# Altium footprint library LARS_409_RADIO.PCBLIB: 6 footprints
Each footprint in its own frame and in the unit in brackets; x right, y up, seen from the top. Pads: shape width x height; smd on the part's side, far side on the other; paste and mask are expansions set on the pad; w line width, h text height; cw(c..) or ccw(c..) is an arc to the next point about the centre after c.
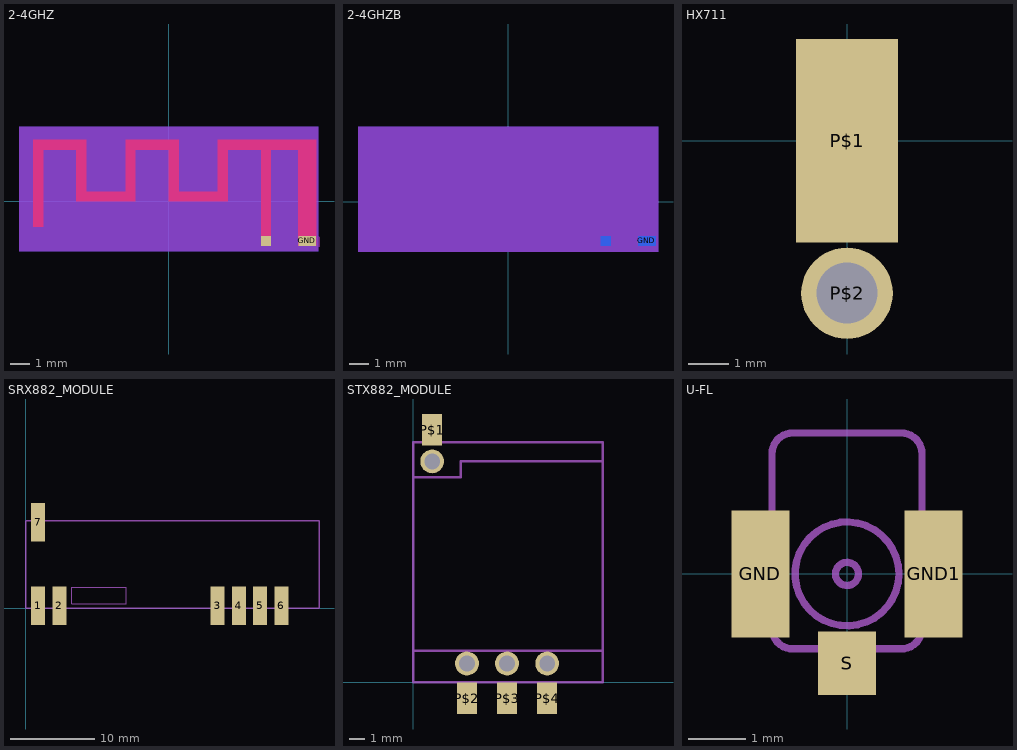
[diagram p0: the footprints below, top view; thin cyan lines are the x and y axes]

## 2-4GHZ [mil]
pads (2):
  rect 19.69x19.69 smd paste+0 mask+0: ANT(195.16,-78.98)
  rect 35.43x19.69 smd paste+0 mask+0: GND(277.83,-78.98)
Top:
  region: 205,-88.82 205,104.09 260.12,104.09 260.12,-88.82 295.55,-88.82 295.55,123.78 98.7,123.78 98.7,19.84 19.96,19.84 19.96,123.78 -86.34,123.78 -86.34,19.84 -165.08,19.84 -165.08,123.78 -271.38,123.78 -271.38,-51.02 -251.69,-51.02 -251.69,104.09 -184.76,104.09 -184.76,0.16 -66.65,0.16 -66.65,104.09 0.28,104.09 0.28,0.16 118.39,0.16 118.39,104.09 185.32,104.09 185.32,-88.82
Top keep-out:
  region: -300,150 -300,-100 300,-100 300,150
  lines w5: 254.21,-88.82 254.21,-73.07 ; 301.46,-88.82 301.46,-73.07
Bottom keep-out:
  region: -300,150 -300,-100 300,-100 300,150

## 2-4GHZB [mil]
pads (2):
  rect 19.69x19.69 smd far side paste+0 mask+0: ANT(195.16,-78.98)
  rect 35.43x19.69 smd far side paste+0 mask+0: GND(277.83,-78.98)
Top keep-out:
  region: -300,150 -300,-100 300,-100 300,150
Bottom:
  region: 205,-88.82 205,104.09 260.12,104.09 260.12,-88.82 295.55,-88.82 295.55,123.78 98.7,123.78 98.7,19.84 19.96,19.84 19.96,123.78 -86.34,123.78 -86.34,19.84 -165.08,19.84 -165.08,123.78 -271.38,123.78 -271.38,-51.02 -251.69,-51.02 -251.69,104.09 -184.76,104.09 -184.76,0.16 -66.65,0.16 -66.65,104.09 0.28,104.09 0.28,0.16 118.39,0.16 118.39,104.09 185.32,104.09 185.32,-88.82
Bottom keep-out:
  region: -300,150 -300,-100 300,-100 300,150

## HX711 [mil]
pads (2):
  rect 100x200 smd: P$1(0,0)
  round 90 hole 60: P$2(0,-150)

## SRX882_MODULE [mil]
pads (7):
  rect 65x180 smd: 1(59.06,10.63) 2(159.06,10.63) 3(901.57,10.63) 4(1001.57,10.63) 5(1101.57,10.63) 6(1201.57,10.63) 7(59.06,402.76)
Dimension:
  lines w0: 216.54,19.69 216.54,98.43 472.44,98.43 472.44,19.69 216.54,19.69
tDocu:
  lines w6: 0,0 1377.95,0 ; 0,409.45 1377.95,409.45
bDocu:
  lines w6: 0,0 0,409.45
tValues:
  lines w6: 1259.84,0 1377.95,0 1377.95,409.45
tPlace:
  lines w6: 0,0 0,409.45 ; 118.11,409.45 1377.95,409.45 1377.95,0 ; 216.54,0 846.46,0

## STX882_MODULE [mm]
pads (8):
  rect 1.27x2 smd: P$1(1.2,16) P$2(3.4,-1) P$3(5.94,-1) P$4(8.48,-1)
  round 1.508 hole 1: P$1.ANT(1.2,14) P$2.DATA(3.4,1.2) P$3.VCC(5.94,1.2) P$4.GND(8.48,1.2)
Dimension:
  lines w0.152: 0,2 12,2 12,14 3,14 3,13 0,13 0,2
tDocu:
  lines w0.152: 0,0 12,0 12,15.2 0,15.2 0,0
tPlace:
  lines w0.152: 0,1 0,0 2,0 ; 0,13.5 0,15.2 0.4,15.2 ; 2.3,15.2 12,15.2 12,14.5 ; 10,0 12,0 12,1

## U-FL [mm]
pads (3):
  rect 1x2.2 smd: GND(-1.5,0) GND1(1.5,0)
  rect 1x1.1 smd: S(0,-1.55)
tDocu:
  circle w0.127: c0,0 r0.9
  lines w0.127: -0.94,2.443 ccw(c-0.94,2.083) -1.3,2.083 -1.3,-0.94 ccw(c-0.94,-0.94) -0.94,-1.3 0.94,-1.3 ccw(c0.94,-0.94) 1.3,-0.94 1.3,2.083 ccw(c0.94,2.083) 0.94,2.443
tPlace:
  circle w0.127: c0,0 r0.2
  lines w0.127: -0.94,2.443 0.94,2.443
3D body "User Library-CL331-0471-0-01.step": height 1.36, standoff 0.01, extent -1.458,-1.431 1.442,1.469